# EAGLE library part 10100565 (library circuit_tree)
IC
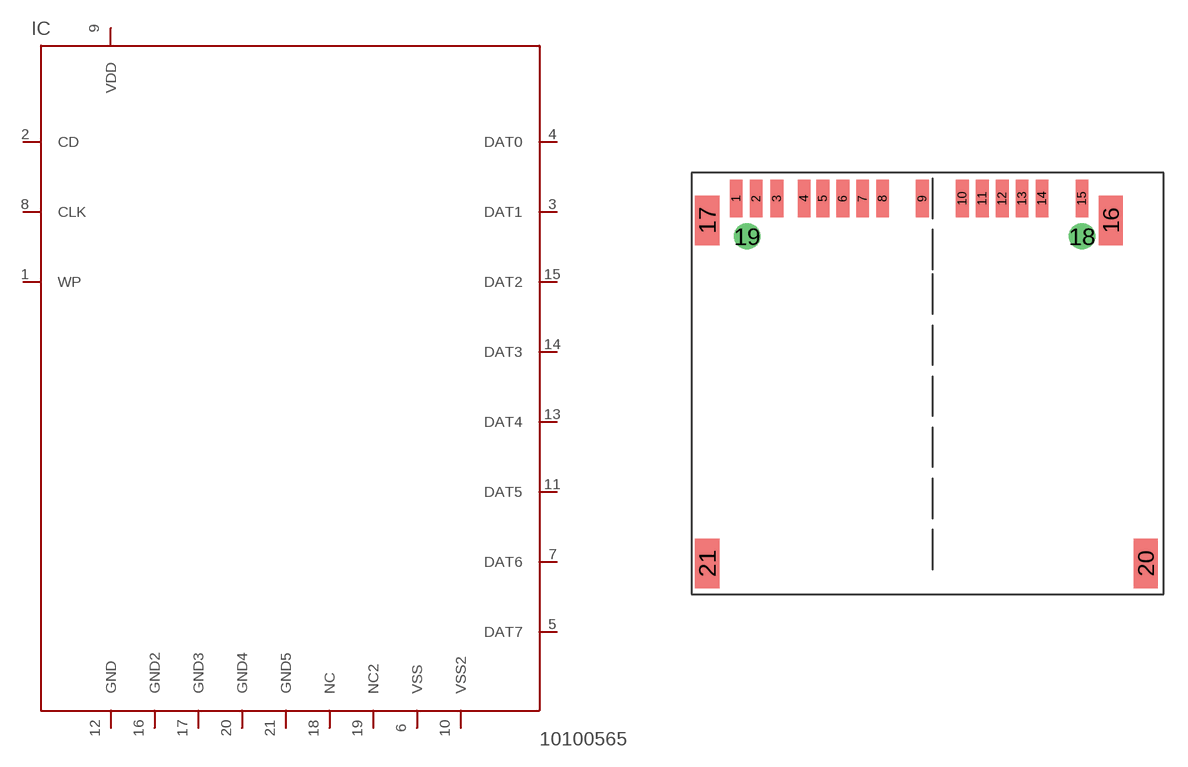
[diagram p0: symbol with the pads of 10100565; footprint 10100565]

Designator prefix IC

## 10100565  [10100565]
1  WP  pas
2  CD  pas
3  DAT1  pas
4  DAT0  pas
5  DAT7  pas
6  VSS  pas
7  DAT6  pas
8  CLK  pas
9  VDD  pas
10  VSS2  pas
11  DAT5  pas
12  GND  pas
13  DAT4  pas
14  DAT3  pas
15  DAT2  pas
16  GND2  pas
17  GND3  pas
18  NC  pas
19  NC2  pas
20  GND4  pas
21  GND5  pas

## Footprint 10100565 (pad centres in mm)
smd 0.8 x 2.35: 1 0,0; 2 1.25,0; 3 2.55,0; 4 4.25,0; 5 5.43,0; 6 6.68,0; 7 7.93,0; 8 9.18,0; 9 11.67,0; 10 14.18,0; 11 15.43,0; 12 16.68,0; 13 17.93,0; 14 19.18,0; 15 21.68,0
smd 1.5 x 3.1: 16 23.495,-1.375; 20 25.685,-22.875
smd 1.55 x 3.1: 17 -1.815,-1.375; 21 -1.815,-22.875
drill 1.1 pad 1.1: 18 21.68,-2.375; 19 0.68,-2.375